# Altium footprint library robotPCBLib.PcbLib: 29 footprints (part 2 of 2)
Each footprint in its own frame and in the unit in brackets; x right, y up, seen from the top. Pads: shape width x height; smd on the part's side, far side on the other; paste and mask are expansions set on the pad; w line width, h text height; cw(c..) or ccw(c..) is an arc to the next point about the centre after c.
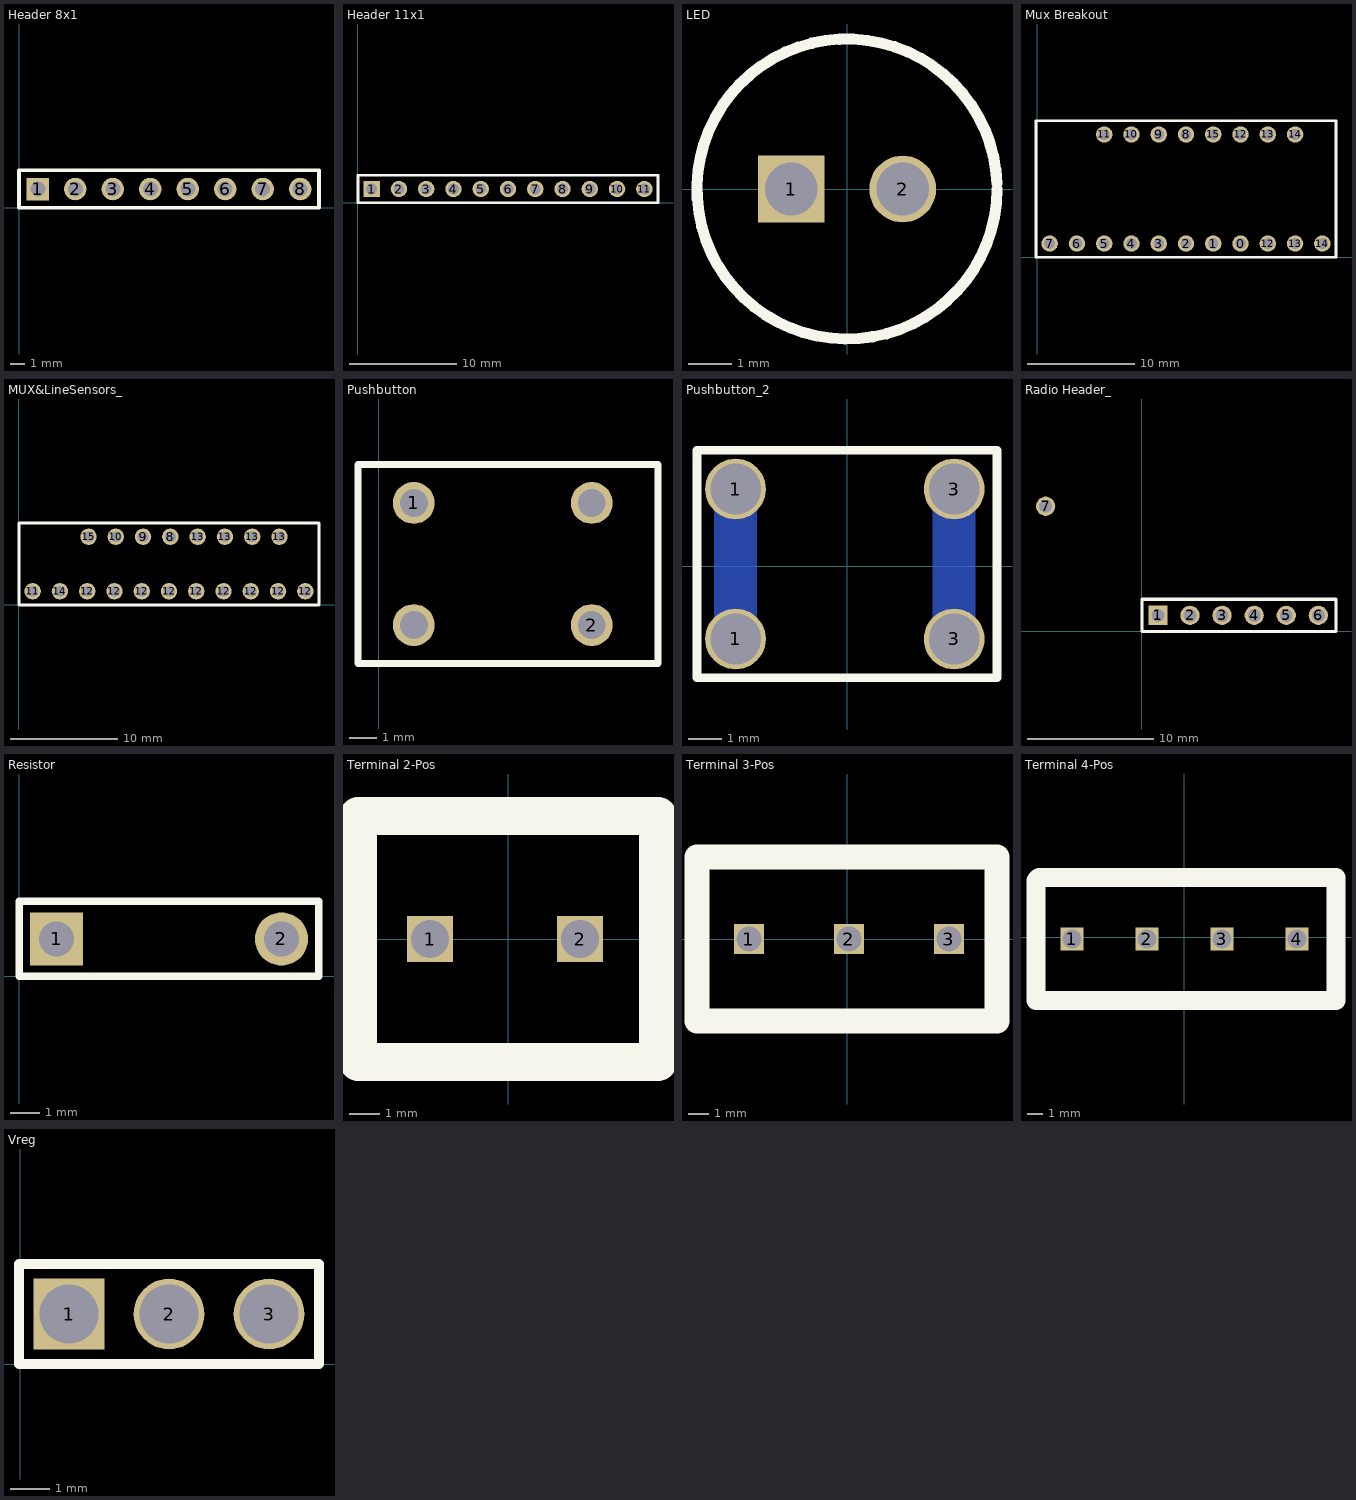
[diagram p1: the footprints below, top view; thin cyan lines are the x and y axes]

## Header 8x1 [mil]
pads (8):
  rect 60x60 hole 40: 1(50,50)
  round 60 hole 40: 2(150,50) 3(250,50) 4(350,50) 5(450,50) 6(550,50) 7(650,50) 8(750,50)
Top Overlay:
  lines w10: 0,0 0,100 800,100 800,0 0,0

## Header 11x1 [mil]
pads (11):
  rect 60x60 hole 40: 1(50,50)
  round 60 hole 40: 2(150,50) 3(250,50) 4(350,50) 5(450,50) 6(550,50) 7(650,50) 8(750,50) 9(850,50) 10(950,50) 11(1050,50)
Top Overlay:
  lines w10: 0,0 1100,0 1100,100 0,100 0,0

## LED [mil]
pads (2):
  rect 60x60 hole 47.24: 1(-50,0)
  round 60 hole 47.24: 2(50,0)
Top Overlay:
  lines w10: 134.54,4.98 ccw(c0,0) 134.63,0

## Mux Breakout [mil]
pads (19):
  round 60 hole 40: 0(745,50) 1(645,50) 2(545,50) 3(445,50) 4(345,50) 5(245,50) 6(145,50) 7(45,50) 8(545,450) 9(445,450) 10(345,450) 11(245,450) 12(745,450) 12(845,50) 13(845,450) 13(945,50) 14(945,450) 14(1045,50) 15(645,450)
Bottom Layer:
  lines w50: 945,450 950,450
Top Overlay:
  lines w10: -5,400 -5,500 ; 1095,400 1095,500 ; -5,500 1095,500 ; -5,500 -5,0 1095,0 1095,500 ; -5,500 1095,500

## MUX&LineSensors_ [mil]
pads (19):
  round 60 hole 40: 8(555,250) 9(455,250) 10(355,250) 11(50,50) 12(250,50) 12(350,50) 12(450,50) 12(550,50) 12(650,50) 12(750,50) 12(850,50) 12(950,50) 12(1050,50) 13(655,250) 13(755,250) 13(855,250) 13(955,250) 14(150,50) 15(255,250)
Top Overlay:
  lines w10: 0,0 1100,0 1100,300 0,300 0,0

## Pushbutton [mil]
pads (4):
  round 60 hole 40: 1(50,350) 2(305,175) ""(50,175) ""(305,350)
Top Overlay:
  lines w10: -30,120 400,120 400,405 -30,405 -30,120

## Pushbutton_2 [mm]
pads (4):
  round 1.8 hole 1.5: 1(-3.302,-2.159) 1(-3.302,2.286) 3(3.175,-2.159) 3(3.175,2.286)
Bottom Layer:
  lines w1.27: -3.302,-2.159 -3.302,2.286 ; 3.175,-2.159 3.175,2.286
Top Overlay:
  lines w0.254: -4.445,-3.302 4.445,-3.302 4.445,3.429 -4.445,3.429 -4.445,-3.302

## Radio Header_ [mil]
pads (7):
  rect 60x60 hole 40: 1(50,50)
  round 60 hole 40: 2(150,50) 3(250,50) 4(350,50) 5(450,50) 6(550,50) 7(-300,390)
Top Overlay:
  lines w10: 0,0 605,0 605,100 0,100 0,0

## Resistor [mm]
pads (2):
  rect 1.8x1.8 hole 1.2: 1(1.27,1.27)
  round 1.8 hole 1.2: 2(8.89,1.27)
Top Overlay:
  lines w0.254: 0,0 0,2.54 10.16,2.54 10.16,0 0,0

## Terminal 2-Pos [mil]
pads (2):
  rect 60x60 hole 49.29: 1(-102.36,0) 2(94.49,0)
Top Overlay:
  lines w50: -196.85,-161.42 -196.85,161.42 196.85,161.42 196.85,-161.42 -196.85,-161.42

## Terminal 3-Pos [mil]
pads (3):
  rect 60x60 hole 49.29: 1(-192.91,0) 2(3.94,0) 3(200.79,0)
Top Overlay:
  lines w50: -295.28,-161.42 295.28,-161.42 295.28,161.42 -295.28,161.42 -295.28,-161.42

## Terminal 4-Pos [mil]
pads (4):
  rect 60x60 hole 49.29: 1(-295.28,-3.94) 2(-98.43,-3.94) 3(98.43,-3.94) 4(295.28,-3.94)
Top Overlay:
  lines w50: -389.76,-165.35 397.64,-165.35 397.64,157.48 -381.89,157.48 -389.76,149.61 -389.76,-165.35

## Vreg [mm]
pads (3):
  rect 1.8x1.8 hole 1.5: 1(1.245,1.27)
  round 1.8 hole 1.5: 2(3.785,1.27) 3(6.325,1.27)
Top Overlay:
  lines w0.254: -0.025,0 -0.025,2.54 7.595,2.54 7.595,0 -0.025,0
3D body: height 9.5, standoff -3.2, extent -0.025,0 7.595,2.54